# EAGLE library part 220ADC04 (library 220ADC04)
Coded Rotary Switches 4 position thru hole Knurled Source: Datasheet <https://componentsearchengine.com/Datasheets/1/220ADC04.pdf>
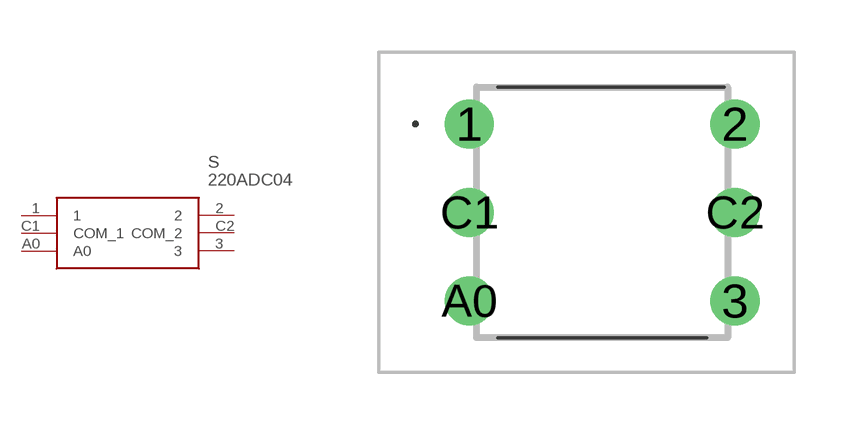
[diagram p0: symbol with the pads of 220ADC04; footprint 220ADC04]

Designator prefix S

## 220ADC04 (Description: Coded Rotary Switches 4 position thru hole Knurled; Height: 6.95mm; Manufacturer_Name: CTS; Manufacturer_Part_Number: 220ADC04; Mouser_Part_Number: 774-220ADC04; Mouser_Price-Stock: https://www.mouser.co.uk/ProductDetail/CTS-Electronic-Components/220ADC04?qs=DRP5hA1CHArLHqDAv1i%2FqA%3D%3D)  [220ADC04]
1  1
2  2
3  3
A0  A0
C1  COM_1
C2  COM_2

## Footprint 220ADC04 (pad centres in mm)
220ADC04-1
drill 0.9 pad 1.4: 1 0,0; 2 7.62,0; 3 7.62,-5.08; A0 0,-5.08; C1 0,-2.54; C2 7.62,-2.54